# Altium footprint library DIGITAL.PcbLib: 9 footprints
Each footprint in its own frame and in the unit in brackets; x right, y up, seen from the top. Pads: shape width x height; smd on the part's side, far side on the other; paste and mask are expansions set on the pad; w line width, h text height; cw(c..) or ccw(c..) is an arc to the next point about the centre after c.
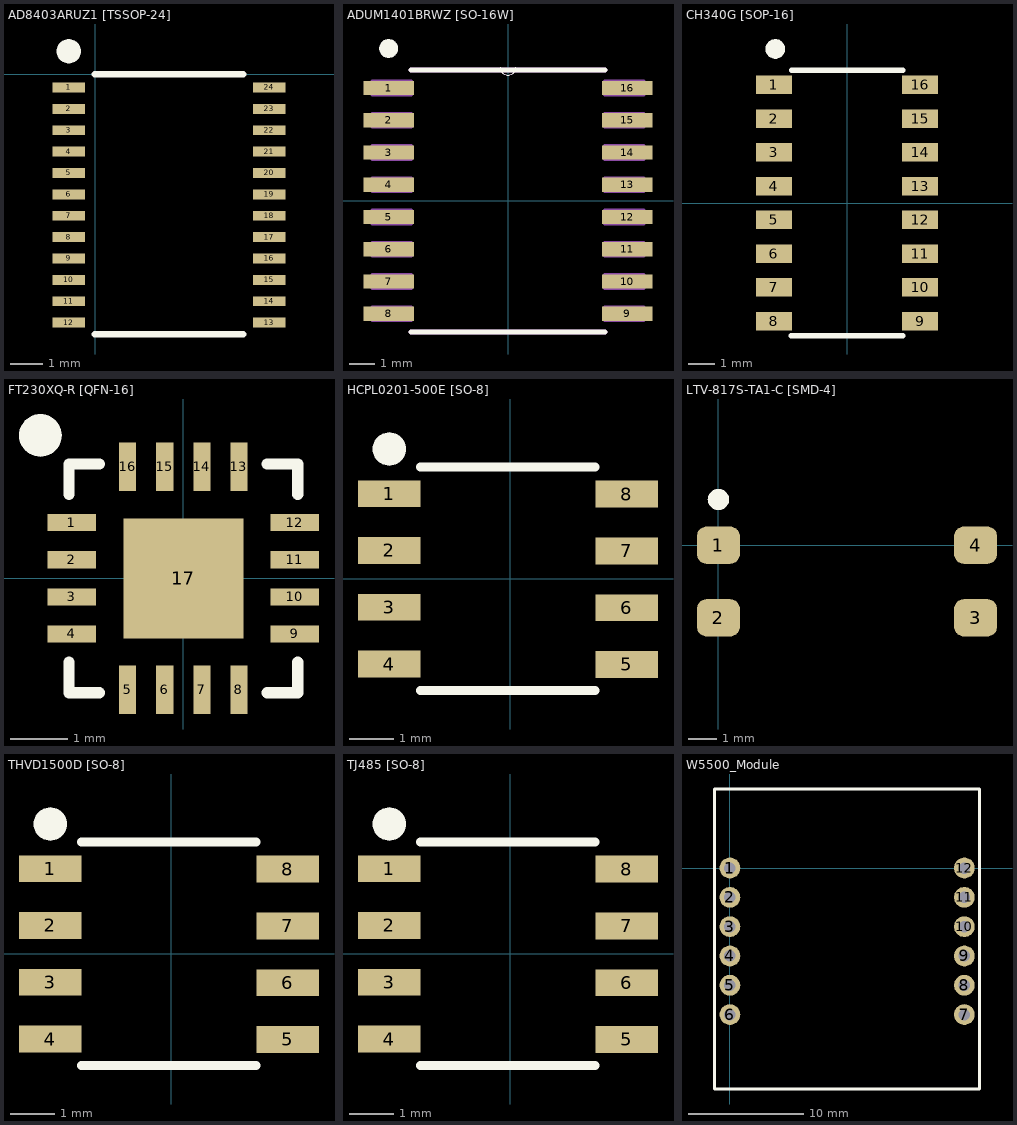
[diagram p0: the footprints below, top view; thin cyan lines are the x and y axes]

## AD8403ARUZ1 [TSSOP-24] [mm]
pads (25):
  rect 1x0.3 smd: 1(-0.8,-0.4) 2(-0.8,-1.05) 3(-0.8,-1.7) 4(-0.8,-2.35) 5(-0.8,-3) 6(-0.8,-3.65) 7(-0.8,-4.3) 8(-0.8,-4.95) 9(-0.8,-5.6) 10(-0.8,-6.25) 11(-0.8,-6.9) 12(-0.8,-7.55) 13(5.3,-7.55) 14(5.3,-6.9) 15(5.3,-6.25) 16(5.3,-5.6) 17(5.3,-4.95) 18(5.3,-4.3) 19(5.3,-3.65) 20(5.3,-3) 21(5.3,-2.35) 22(5.3,-1.7) 23(5.3,-1.05) 24(5.3,-0.4)
  round 0.75 on Top Overlay: ""(-0.8,0.7)
Top Overlay:
  lines w0.2: 0,-7.9 4.5,-7.9 ; 0,0 4.5,0
3D body "AD8403ARUZ1_TSSOP_24.STEP": height 1.2, standoff 0, extent -0.9,-7.9 5.5,-0.1

## ADUM1401BRWZ [SO-16W] [mil]
pads (17):
  rect 78x22 smd: 1(-185,175) 2(-185,125) 3(-185,75) 4(-185,25) 5(-185,-25) 6(-185,-75) 7(-185,-125) 8(-185,-175) 9(185,-175) 10(185,-125) 11(185,-75) 12(185,-25) 13(185,25) 14(185,75) 15(185,125) 16(185,175)
  round 29.53 on Top Overlay: ""(-185.04,236.22)
Top Overlay:
  lines w0: -12,207 ccw(c0,207) 12,207
  lines w7.87: -150,-203.06 150,-203.06 ; -150,203.06 -12,203.06 12,203.06 150,203.06
Mechanical 13:
  lines w0: -12,207 ccw(c0,207) 12,207
  lines w6: -150,-185 -210,-185 -210,-165 -150,-165 ; -150,-135 -210,-135 -210,-115 -150,-115 ; -150,-85 -210,-85 -210,-65 -150,-65 ; -150,-35 -210,-35 -210,-15 -150,-15 ; -150,15 -210,15 -210,35 -150,35 ; -150,65 -210,65 -210,85 -150,85 ; -150,115 -210,115 -210,135 -150,135 ; -150,165 -210,165 -210,185 -150,185 ; 150,-185 210,-185 210,-165 150,-165 ; 150,-135 210,-135 210,-115 150,-115 ; 150,-85 210,-85 210,-65 150,-65 ; 150,-35 210,-35 210,-15 150,-15 ; 150,15 210,15 210,35 150,35 ; 150,65 210,65 210,85 150,85 ; 150,115 210,115 210,135 150,135 ; 150,165 210,165 210,185 150,185
  lines w7.87: -150,-203.06 150,-203.06 ; -150,203.06 -12,203.06 12,203.06 150,203.06
3D body "step_temp.STEP": height 105.31, standoff 0.98, extent -203.25,-202.76 203.25,202.76

## CH340G [SOP-16] [mm]
pads (17):
  rect 1.35x0.7 smd: 1(-2.75,4.445) 2(-2.75,3.175) 3(-2.75,1.905) 4(-2.75,0.635) 5(-2.75,-0.635) 6(-2.75,-1.905) 7(-2.75,-3.175) 8(-2.75,-4.445) 9(2.75,-4.445) 10(2.75,-3.175) 11(2.75,-1.905) 12(2.75,-0.635) 13(2.75,0.635) 14(2.75,1.905) 15(2.75,3.175) 16(2.75,4.445)
  round 0.75 on Top Overlay: ""(-2.7,5.8)
Top Overlay:
  lines w0.2: -2.1,-5 2.1,-5 ; -2.075,5 2.1,5
3D body "Ch340G_SOP_16.STEP": height 1.8, standoff 0, extent -3,-5 3,5
3D body "step_temp.STEP": height 1.8, standoff 0, extent -3,-5 3,5

## FT230XQ-R [QFN-16] [mm]
pads (18):
  rect 0.85x0.3 smd: 1(-1.95,0.975) 2(-1.95,0.325) 3(-1.95,-0.325) 4(-1.95,-0.975) 9(1.95,-0.975) 10(1.95,-0.325) 11(1.95,0.325) 12(1.95,0.975)
  rect 0.3x0.85 smd: 5(-0.975,-1.95) 6(-0.325,-1.95) 7(0.325,-1.95) 8(0.975,-1.95) 13(0.975,1.95) 14(0.325,1.95) 15(-0.325,1.95) 16(-0.975,1.95)
  rect 2.1x2.1 smd paste-2: 17(0,0)
  round 0.75 on Top Overlay: ""(-2.5,2.5)
Top Overlay:
  lines w0.2: -2,-1.47 -2,-2 -1.47,-2 ; -2,1.47 -2,2 -1.47,2 ; 1.47,-2 2,-2 2,-1.47 ; 1.47,2 2,2 2,1.47
3D body "FT230XQ-R_QFN_16.STEP": height 0.8, standoff 0, extent -2,-2 2,2

## HCPL0201-500E [SO-8] [mm]
pads (9):
  rect 1.4x0.6 smd: 1(-2.7,1.9) 2(-2.7,0.63) 3(-2.7,-0.64) 4(-2.7,-1.91) 5(2.61,-1.92) 6(2.61,-0.65) 7(2.61,0.62) 8(2.61,1.89)
  round 0.75 on Top Overlay: ""(-2.7,2.9)
Top Overlay:
  lines w0.2: -2,-2.5 1.9,-2.5 ; -2,2.5 1.9,2.5
3D body "THVD1500D_SO_8.STEP": height 1.75, standoff 0, extent -3,-2.45 3,2.45

## LTV-817S-TA1-C [SMD-4] [mm]
pads (5):
  rrect50% 1.5x1.3 smd: 1(0,0) 2(0,-2.54) 3(9,-2.54) 4(9,0)
  round 0.75 on Top Overlay: ""(0,1.6)
3D body "OR-406AS-TP_NSTD.STEP": height 3.65, standoff 0.01, extent -0.58,-3.49 9.58,1.09

## THVD1500D [SO-8] [mm]
pads (9):
  rect 1.4x0.6 smd: 1(-2.7,1.9) 2(-2.7,0.63) 3(-2.7,-0.64) 4(-2.7,-1.91) 5(2.61,-1.92) 6(2.61,-0.65) 7(2.61,0.62) 8(2.61,1.89)
  round 0.75 on Top Overlay: ""(-2.7,2.9)
Top Overlay:
  lines w0.2: -2,-2.5 1.9,-2.5 ; -2,2.5 1.9,2.5
3D body "THVD1500D_SO_8.STEP": height 1.75, standoff 0, extent -3,-2.45 3,2.45

## TJ485 [SO-8] [mm]
pads (9):
  rect 1.4x0.6 smd: 1(-2.7,1.9) 2(-2.7,0.63) 3(-2.7,-0.64) 4(-2.7,-1.91) 5(2.61,-1.92) 6(2.61,-0.65) 7(2.61,0.62) 8(2.61,1.89)
  round 0.75 on Top Overlay: ""(-2.7,2.9)
Top Overlay:
  lines w0.2: -2,-2.5 1.9,-2.5 ; -2,2.5 1.9,2.5
3D body "THVD1500D_SO_8.STEP": height 1.75, standoff 0, extent -3,-2.45 3,2.45

## W5500_Module [mm]
pads (12):
  round 1.8 hole 1: 1(0,0) 2(0,-2.54) 3(0,-5.08) 4(0,-7.62) 5(0,-10.16) 6(0,-12.7) 7(20.32,-12.7) 8(20.32,-10.16) 9(20.32,-7.62) 10(20.32,-5.08) 11(20.32,-2.54) 12(20.32,0)
Top Overlay:
  lines w0.254: -1.35,-19.15 -1.35,6.85 21.65,6.85 21.65,-19.15 -1.35,-19.15